# Altium footprint library adafruit.PCBLIB: 630 footprints (part 33 of 40)
Each footprint in its own frame and in the unit in brackets; x right, y up, seen from the top. Pads: shape width x height; smd on the part's side, far side on the other; paste and mask are expansions set on the pad; w line width, h text height; cw(c..) or ccw(c..) is an arc to the next point about the centre after c.
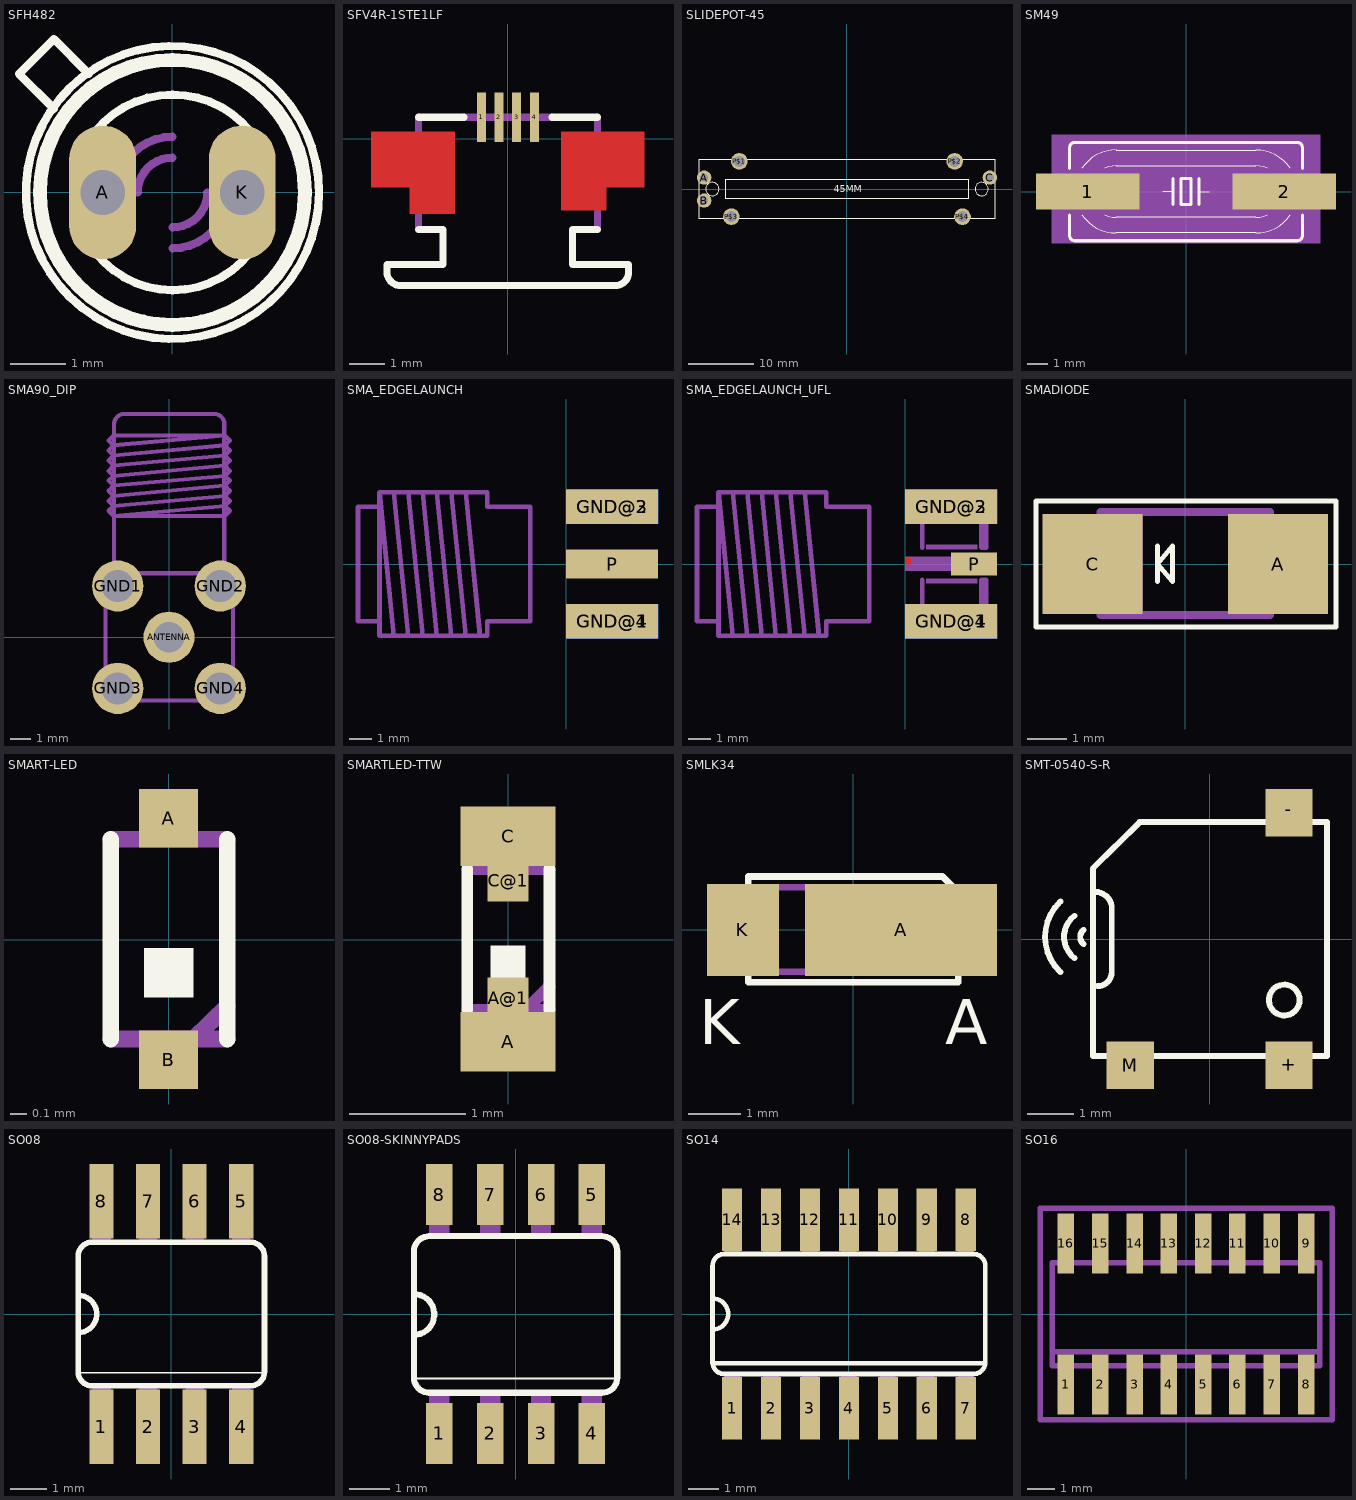
[diagram p32: the footprints below, top view; thin cyan lines are the x and y axes]

## SFH482 [mil]
pads (2):
  oval 48x96 hole 32: A(-50,0) K(50,0)
Top Overlay:
  circle w6: c0,0 r105
  circle w10: c0,0 r95
  lines w6: -85,60 -110,85 -85,110 -60,85 ; -60.46,-35.27 ccw(c0,0) 0,-70 ccw(c0.27,0.47) 61,-35.27 ; -60.46,36 cw(c-0.63,0.36) 0,70 cw(c0.9,-0.1) 61,36
Mechanical 16:
  lines w6: -59.61,-36.68 cw(c0,0) -70,0 cw(c0.72,0.21) -59.06,38 ; -40,0 cw(c0,0) 0,40 ; -25,0 cw(c0,0) 0,25 ; 0,-40 ccw(c0,0) 40,0 ; 0,-25 ccw(c0,0) 25,0 ; 60,-37.58 ccw(c0.47,-1.62) 70,0 ccw(c-0.36,0.83) 60,37

## SFV4R-1STE1LF [mil]
pads (4):
  rect 10x56 smd: 1(-29.53,24) 2(-9.84,24) 3(10,24) 4(30,24)
Top Layer:
  rectangle: -153.54,-55.12 -59.06,8
  rectangle: -110.24,-84.65 -59.06,-51.18
  rectangle: 60,-55.12 154,8
  rectangle: 60,-80.71 111,-47.24
Top Overlay:
  lines w8: -100.39,-102.36 -72.83,-102.36 -72.83,-141.73 -135.83,-141.73 -135.83,-149.61 ccw(c-120.08,-149.61) -120.08,-165.35 121,-165.35 ccw(c120.63,-149.98) 136,-149.61 136,-141.73 73,-141.73 73,-102.36 101,-102.36 ; -100.39,24 -49.21,24 ; 50,24 101,24
Top Paste:
  rectangle: -168.31,-74.8 -82.68,3
  rectangle: -125.98,-108.27 -82.68,-74.8
  rectangle: 83,-74.8 169,3
  rectangle: 83,-108.27 126,-74.8
Top Solder:
  rectangle: -110.24,-84.65 -59.06,-51.18
  rectangle: -35.43,-3.94 -23.62,52
  rectangle: -15.75,-3.94 -3.94,52
  rectangle: 4,-3.94 16,52
  rectangle: 24,-3.94 36,52
  rectangle: -153.54,-55.12 -59.06,8
  rectangle: 60,-55.12 154,8
  rectangle: 60,-82.68 111,-55.12
Mechanical 16:
  lines w8: -100.39,-102.36 -100.39,24 ; -49.21,24 50,24 ; 101,-102.36 101,24
  lines w20: -137.8,-39.37 -106.3,-39.37 -106.3,-5.91 -137.8,-5.91 ; 138,-39.37 107,-39.37 107,-5.91 138,-5.91

## SLIDEPOT-45 [mil]
pads (7):
  round 86 hole 48: A(-856.3,69) B(-856.3,-68.9) C(857,69)
  round 100 hole 67: P$1(-645.67,166) P$2(646,166) P$3(-692.91,-165.35) P$4(693,-165.35)
Top Overlay:
  circle w5: c-807.09,0 r40
  circle w5: c808,0 r40
  lines w5: -885.83,-177.17 886,-177.17 886,178 -885.83,178 -885.83,-177.17 ; -728.35,-59.06 729,-59.06 729,60 -728.35,60 -728.35,-59.06
  text "45MM" at -78.74,-19.68 h42.5

## SM49 [mil]
pads (2):
  rect 200x70 smd: 1(-190,0) 2(190,0)
Top Overlay:
  lines w2: -201.15,-45 ccw(c-135,0) -135,-80 135,-80 ccw(c135.42,0.81) 202,-45 ; -201.15,45 cw(c-134.06,0.5) -135,81 ; -156.8,-45 ccw(c-135,0) -135,-50 135,-50 ccw(c135.1,0.45) 157,-45 ; -156.8,45 cw(c-135,0) -135,50 135,50 cw(c135.1,-0.45) 157,45 ; -135,80 135,80 cw(c135.43,-0.81) 202,45 ; -45,0 -25,0 ; 25,0 45,0
  lines w6: -225,-45 -225,-85 ccw(c-215,-85) -215,-95 215,-95 ccw(c215,-85) 225,-85 225,-45 ; -225,45 -225,85 cw(c-215,85) -215,95 215,95 cw(c215,85) 225,85 225,45 ; -25,-25 -25,0 -25,25 ; 25,-25 25,0 25,25 ; -10,-25 -10,25 10,25 10,-25 -10,-25
Mechanical 10:
  rectangle: -260,-100 260,110
Mechanical 16:
  lines w2: -201.15,-45 cw(c-135,0) -201.15,45 ; -156.8,-45 cw(c-135,0) -156.8,45 ; 157,-45 ccw(c135.2,0) 157,45 ; 202,-45 ccw(c135.85,0) 202,45
  lines w6: -225,-45 -225,45 ; -225,-15 -255,-15 -255,15 -225,15 ; 225,-45 225,-15 ; 225,45 225,15 ; 225,-15 225,15 ; 225,-15 255,-15 255,15 225,15

## SMA90_DIP [mil]
pads (5):
  round 100 hole 60: ANTENNA(0,0)
  round 100 hole 63: GND1(-100,100) GND2(100,100) GND3(-100,-100) GND4(100,-100)
Mechanical 16:
  lines w8: -107.28,125 -107.28,416 ; -107.09,416 cw(c-87.54,416.45) -87.99,436 ; -87.6,436 88,436 ; 89,436 cw(c88.5,416.5) 108,416 108,125 ; -108.27,237 -118.11,247 -108.27,256 ; -108.27,237 109,256 ; -108.27,237 109,237 119,247 109,256 ; -108.27,256 -118.11,266 -108.27,276 ; -108.27,256 109,276 ; -108.27,276 -118.11,286 -108.27,296 ; -108.27,276 109,296 ; -108.27,296 -118.11,306 -108.27,315 ; -108.27,296 109,315 ; -108.27,315 -118.11,325 -108.27,335 ; -108.27,315 109,335 ; -108.27,335 -118.11,345 -108.27,355 ; -108.27,335 109,355 ; -108.27,355 -118.11,365 -108.27,375 ; -108.27,355 109,375 ; -108.27,375 -118.11,384 -108.27,394 109,394 ; -108.27,375 109,394 ; 109,256 119,266 109,276 ; 109,276 119,286 109,296 ; 109,296 119,306 109,315 ; 109,315 119,325 109,335 ; 109,335 119,345 109,355 ; 109,355 119,365 109,375 ; 109,375 119,384 109,394 ; -124.02,-99.21 ccw(c-99.21,-99.21) -99.21,-124.02 100,-124.02 ccw(c100.1,-99.11) 125,-99.21 125,100 ccw(c100,100) 100,125 -99.21,125 ccw(c-99.11,100.1) -124.02,100 -124.02,-99.21

## SMA_EDGELAUNCH [mil]
pads (5):
  rect 160x60 smd: GND@1(80,-100) GND@2(80,100)
  rect 160x60 smd far side: GND@3(80,100) GND@4(80,-100)
  rect 160x50 smd: P(80,0)
Mechanical 2:
  text ">LABEL" at 200,-250 h62
Mechanical 16:
  rectangle: 0,-12.5 125,13
  region: 0,0 10,0 10,10 0,10
  region: 0,0 10,0 10,10 0,10
  lines w8: -150,-125 -175,125 ; -325,-100 -325,-125 -300,-125 ; -325,-100 -362.5,-100 -362.5,100 -325,100 ; -325,-100 -325,100 ; -325,100 -325,125 ; -325,125 -300,125 ; -325,125 -300,-125 ; -300,-125 -275,-125 ; -300,125 -275,125 ; -300,125 -275,-125 ; -275,-125 -250,-125 ; -275,125 -250,125 ; -275,125 -250,-125 ; -250,-125 -225,-125 ; -250,125 -225,125 ; -250,125 -225,-125 ; -225,-125 -200,-125 ; -225,125 -200,125 ; -225,125 -200,-125 ; -200,-125 -175,-125 ; -200,125 -175,125 ; -200,125 -175,-125 ; -175,-125 -137.5,-125 -137.5,-100 -62.5,-100 -62.5,100 -137.5,100 -137.5,125 -175,125

## SMA_EDGELAUNCH_UFL [mil]
pads (5):
  rect 160x60 smd: GND@1(80,-100) GND@2(80,100)
  rect 160x60 smd far side: GND@3(80,100) GND@4(80,-100)
  rect 80x40 smd: P(120,0)
Top Layer:
  region: 0,0 10,0 10,10 0,10
  region: 0,0 10,0 10,10 0,10
Top Paste:
  rectangle: 126,-19 156,19
  rectangle: 39,39 123,71
  region: 123,-38.94 39,-38.94 39,-70.94 123,-70.94
Top Solder:
  rectangle: 35,37 127,73
  region: 127,-36.94 35,-36.94 35,-72.94 127,-72.94
Mechanical 2:
  text ">LABEL" at 200,-250 h62
Mechanical 8:
  rectangle: 36,-34 126,-25
  rectangle: 36,25 126,34
Mechanical 16:
  rectangle: 0,-12.5 125,13
  region: 0,0 10,0 10,10 0,10
  region: 0,0 10,0 10,10 0,10
  lines w8: -150,-125 -175,125 ; 30,-27.56 30,-82.68 133,-82.68 ; 30,28 30,83 133,83 ; 137,-78.74 137,-27.56 ; 137,28 137,79 ; -325,-100 -325,-125 -300,-125 ; -325,-100 -362.5,-100 -362.5,100 -325,100 ; -325,-100 -325,100 ; -325,100 -325,125 ; -325,125 -300,125 ; -325,125 -300,-125 ; -300,-125 -275,-125 ; -300,125 -275,125 ; -300,125 -275,-125 ; -275,-125 -250,-125 ; -275,125 -250,125 ; -275,125 -250,-125 ; -250,-125 -225,-125 ; -250,125 -225,125 ; -250,125 -225,-125 ; -225,-125 -200,-125 ; -225,125 -200,125 ; -225,125 -200,-125 ; -200,-125 -175,-125 ; -200,125 -175,125 ; -200,125 -175,-125 ; -175,-125 -137.5,-125 -137.5,-100 -62.5,-100 -62.5,100 -137.5,100 -137.5,125 -175,125 ; 133,-82.68 133,-27.56 141,-27.56 141,-82.68 133,-82.68 ; 133,83 133,28 141,28 141,83 133,83

## SMADIODE [mil]
pads (2):
  rect 100x100 smd: A(93,0) C(-92.5,0)
Top Overlay:
  lines w5: -149.17,-54.88 -149.17,-45.12 ; -27.5,-17.5 -27.5,18 ; 151,53 151,55 ; -149.17,-45.12 -149.17,63 151,63 151,55 ; -149.17,-45.12 -149.17,-62.99 151,-62.99 151,55 ; -27.5,0 -12.5,18 -12.5,-17.5 -27.5,0
Mechanical 16:
  rectangle: -111.22,-43.31 -85.63,44
  region: 112,44 86,44 86,-43.31 112,-43.31
  rectangle: -68.9,-48.23 -42.32,49
  lines w8: -84.65,-51.18 85,-51.18 85,52 -84.65,52 -84.65,-51.18

## SMART-LED [mil]
pads (2):
  rect 14x14 smd: A(0,29) B(0,-28.54)
Top Overlay:
  rectangle: -5.91,-13.78 6,-1.97
  lines w4: -13.78,-23.62 -13.78,24 ; 14,-23.62 14,24
Mechanical 16:
  rectangle: -5.91,24 6,34
  rectangle: -5.91,-33.46 6,-23.62
  lines w4: -13.78,-23.62 14,-23.62 ; -13.78,24 14,24 ; 6,-23.62 14,-15.75

## SMARTLED-TTW [mil]
pads (4):
  rect 32x20 smd: A(0,-34.45) C(0,35)
  rect 14x14 smd: A@1(0,-19.68) C@1(0,20)
Top Overlay:
  rectangle: -5.91,-13.78 6,-1.97
  lines w4: -13.78,-23.62 -13.78,24 ; 14,-23.62 14,24
Top Paste:
  rectangle: -8.86,12 9,39
  region: 9,-11.81 -8.86,-11.81 -8.86,-38.39 9,-38.39
Top Solder:
  rectangle: -6.89,13 7,28
  region: 7,-12.8 -6.89,-12.8 -6.89,-27.56 7,-27.56
Mechanical 16:
  rectangle: -5.91,24 6,34
  rectangle: -5.91,-33.46 6,-23.62
  lines w4: -13.78,-23.62 14,-23.62 ; -13.78,24 14,24 ; 6,-23.62 14,-15.75

## SMLK34 [mil]
pads (2):
  rect 144x69 smd: A(36,0)
  rect 54x69 smd: K(-82.68,0)
Top Overlay:
  lines w5: -78.74,-39.37 79,-39.37 79,28 67,40 -78.74,40 -78.74,-39.37
  text "A" at 69,-85.75 h34
  text "K" at -115.67,-85.75 h34
Mechanical 2:
  lines w5: -70.87,-31.5 -70.87,32 63,32 71,24 71,-31.5 -70.87,-31.5

## SMT-0540-S-R [mil]
pads (3):
  rect 40x40 smd: +(67,-106.3) -(67,107) M(-66.93,-106.3)
Top Overlay:
  circle w5: c63,-51.18 r13
  lines w5: -125.98,-27.56 cw(c-98.19,2.22) -125.98,32 ; -114.17,-15.75 cw(c-100.27,2.13) -114.17,20 ; -106.3,-3.94 cw(c-101.82,2.03) -106.3,8 ; -94.49,-39.37 ccw(c-94.49,-27.56) -82.68,-27.56 -82.68,28 ccw(c-96.55,26.13) -98.43,40 ; -98.43,40 -98.43,-98.43 99,-98.43 99,99 -59.06,99 -98.43,60 -98.43,40

## SO08 [mil]
pads (8):
  rect 26x80 smd: 1(-75,-121) 2(-25,-121) 3(25,-121) 4(75,-121) 5(75,121) 6(25,121) 7(-25,121) 8(-75,121)
Top Overlay:
  lines w2: -100,-63 100,-63
  lines w6: -100,-20 ccw(c-100,0) -100,20 ; -100,-62 ccw(c-85,-62) -85,-77 85,-77 ccw(c85,-62) 100,-62 100,62 ccw(c85,62) 85,77 -85,77 ccw(c-85,62) -100,62 -100,-62
Mechanical 16:
  rectangle: 65,77 85,122
  rectangle: -85,-122 -65,-77
  rectangle: -35,-122 -15,-77
  rectangle: 15,-121 35,-76
  rectangle: 65,-122 85,-77
  rectangle: 15,77 35,122
  rectangle: -35,77 -15,122
  rectangle: -85,77 -65,122

## SO08-SKINNYPADS [mil]
pads (8):
  rect 26x60 smd: 1(-75,-117.06) 2(-25,-117.06) 3(25,-117.06) 4(75,-117.06) 5(75,118) 6(25,118) 7(-25,118) 8(-75,118)
Top Overlay:
  lines w2: -100,-63 100,-63
  lines w6: -100,-20 ccw(c-100,0) -100,20 ; -100,-62 ccw(c-85,-62) -85,-77 85,-77 ccw(c85,-62) 100,-62 100,62 ccw(c85,62) 85,77 -85,77 ccw(c-85,62) -100,62 -100,-62
Mechanical 16:
  rectangle: 65,77 85,122
  rectangle: -85,-122 -65,-77
  rectangle: -35,-122 -15,-77
  rectangle: 15,-121 35,-76
  rectangle: 65,-122 85,-77
  rectangle: 15,77 35,122
  rectangle: -35,77 -15,122
  rectangle: -85,77 -65,122

## SO14 [mil]
pads (14):
  rect 26x80 smd: 1(-150,-121) 2(-100,-121) 3(-50,-121) 4(0,-121) 5(50,-121) 6(100,-121) 7(150,-121) 8(150,121) 9(100,121) 10(50,121) 11(0,121) 12(-50,121) 13(-100,121) 14(-150,121)
Top Overlay:
  lines w6: -175,-63 175,-63 ; -175,-20 -175,20 ; -175,-20 -175,-62 ccw(c-160,-62) -160,-77 160,-77 ccw(c160,-62) 175,-62 175,62 ccw(c160,62) 160,77 -160,77 ccw(c-160,62) -175,62 -175,20 ; -175,-20 ccw(c-175,0) -175,20
Mechanical 16:
  rectangle: -10,77 10,122
  rectangle: -160,-122 -140,-77
  rectangle: -110,-122 -90,-77
  rectangle: -60,-121 -40,-76
  rectangle: -10,-122 10,-77
  rectangle: -60,77 -40,122
  rectangle: -110,77 -90,122
  rectangle: -160,77 -140,122
  rectangle: 40,77 60,122
  rectangle: 90,77 110,122
  rectangle: 140,77 160,122
  rectangle: 40,-122 60,-77
  rectangle: 90,-122 110,-77
  rectangle: 140,-122 160,-77

## SO16 [mil]
pads (16):
  rect 24x87 smd: 1(-175,-102.36) 2(-125,-102.36) 3(-75,-102.36) 4(-25,-102.36) 5(25,-102.36) 6(75,-102.36) 7(125,-102.36) 8(175,-102.36) 9(175,103) 10(125,103) 11(75,103) 12(25,103) 13(-25,103) 14(-75,103) 15(-125,103) 16(-175,103)
Mechanical 16:
  rectangle: -184.65,-122.05 -165.35,-78.74
  rectangle: -134.65,-122.05 -115.35,-78.74
  rectangle: -84.65,-122.05 -65.35,-78.74
  rectangle: -34.65,-122.05 -15.35,-78.74
  rectangle: 66,79 85,123
  rectangle: 16,79 35,123
  rectangle: -34.65,79 -15.35,123
  rectangle: -84.65,79 -65.35,123
  rectangle: 16,-122.05 35,-78.74
  rectangle: 66,-122.05 85,-78.74
  rectangle: 116,-122.05 135,-78.74
  rectangle: 166,-122.05 185,-78.74
  rectangle: 166,79 185,123
  rectangle: 116,79 135,123
  rectangle: -134.65,79 -115.35,123
  rectangle: -184.65,79 -165.35,123
  lines w8: -194.49,-55.12 -194.49,-74.8 195,-74.8 195,-55.12 ; -194.49,-55.12 -194.49,75 195,75 195,-55.12 ; -194.49,-55.12 195,-55.12
Mechanical 27:
  lines w8: -212.4,-153.54 213,-153.54 213,154 -212.4,154 -212.4,-153.54